# Altium integrated library Texas Instruments Interface USB.IntLib: 91 symbols (part 2 of 12)
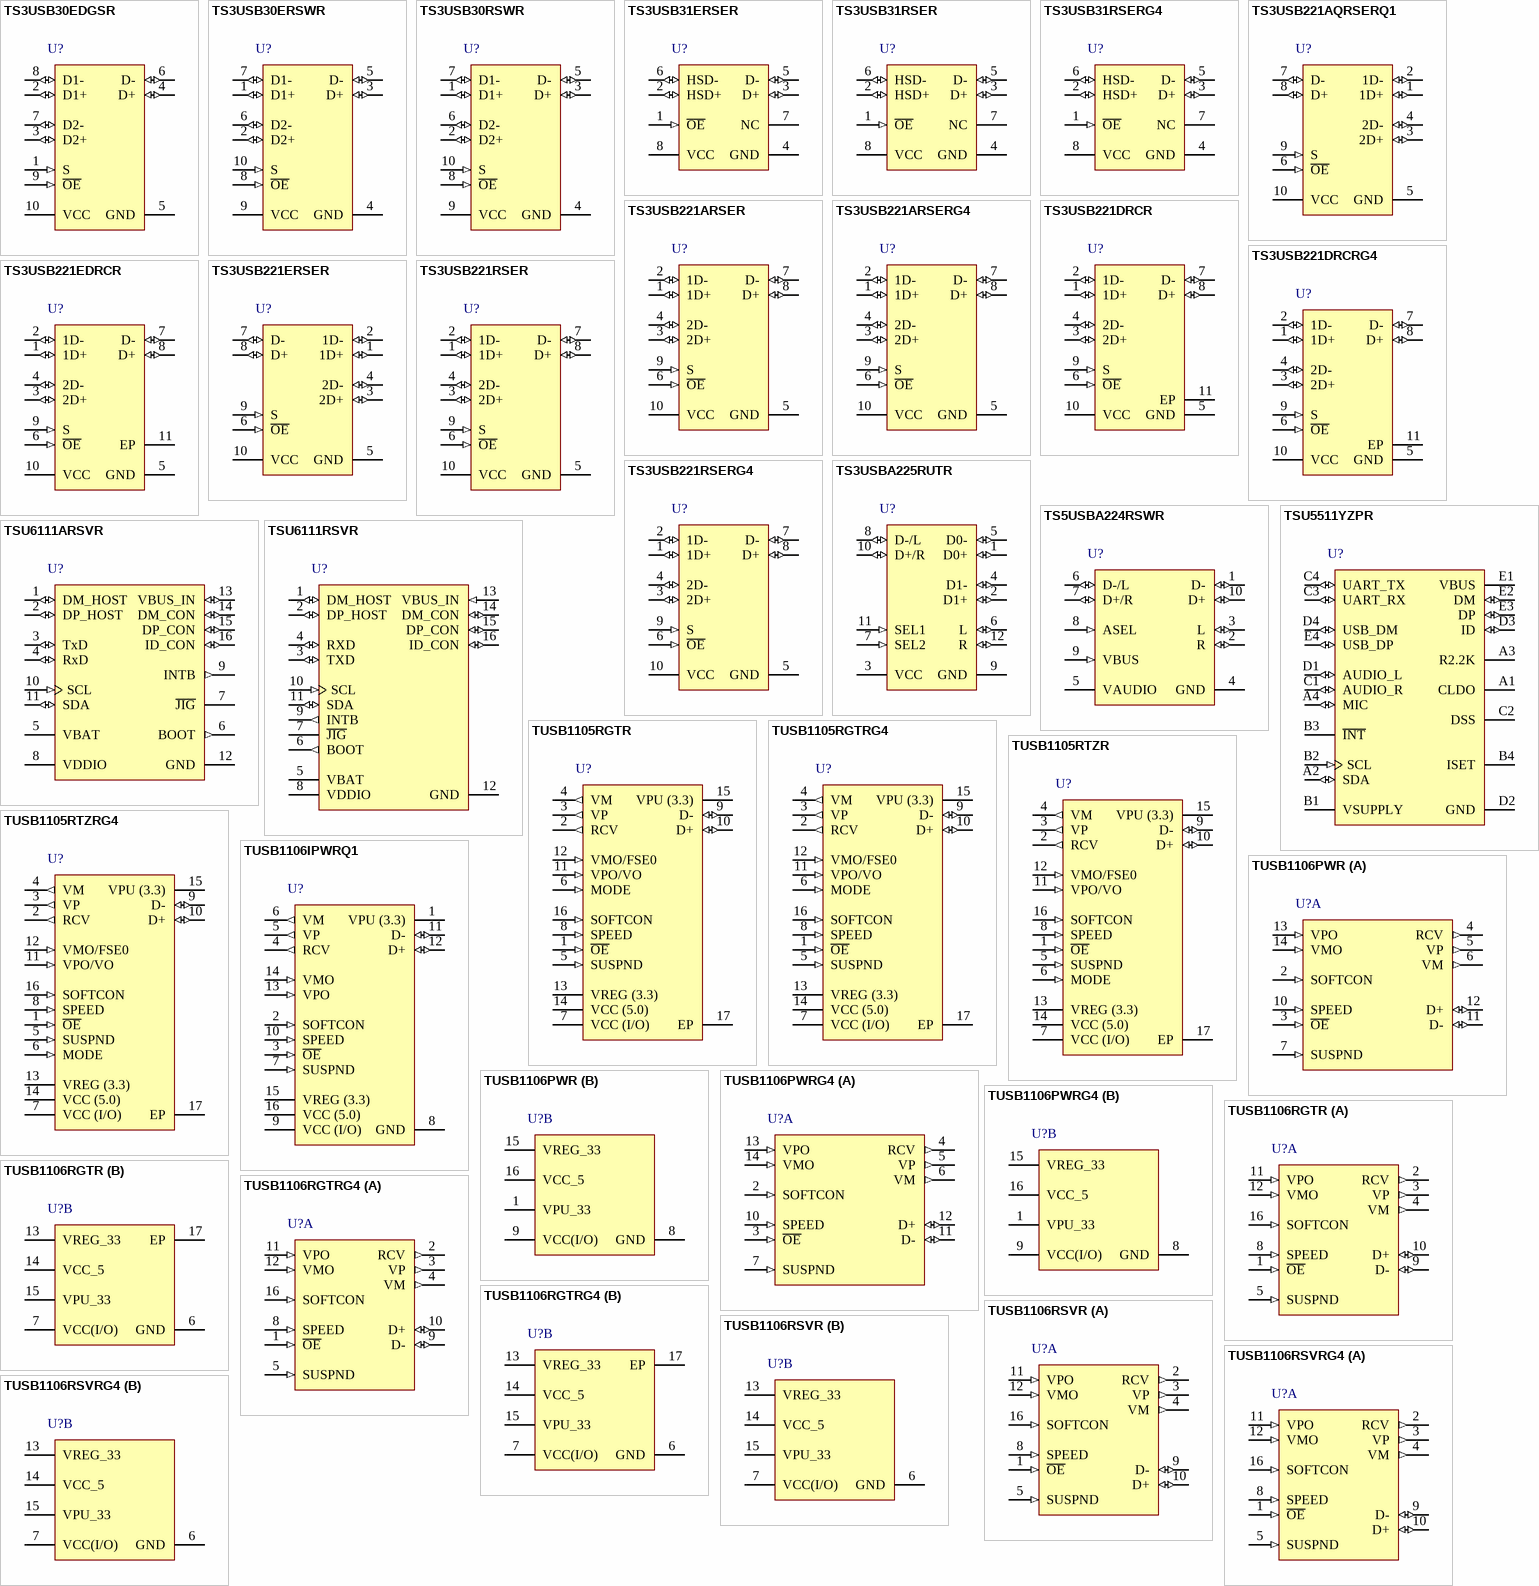
[diagram p9: symbols TS3USB30EDGSR to TUSB1106RSVRG4]

## TUSB1106IPWRQ1
designator U?
Automotive Catalog Advanced USB Transciever, Full Speed, +/-15 kV, -40 to 85 degC, 16-Pin TSSOP (PW), Green (RoHS & no Sb/Br); PartNumber: TUSB1106IPWRQ1; Manufacturer: Texas Instruments; SubFamily: USB Transceiver; DatasheetVersion: SCAS916; PackageVersion: revG, Feb-2011; PackageReference: PW16; PackageDescription: 16-Pin Plastic Thin Small Outline Package 5 x 4.4 mm Body ,0.65 mm Pitch; Mounting Technology: Surface Mount; Eco-Plan: Green (RoHS & no Sb/Br); ESD HBM(kV): +/-15; USB Speed: Full; Code_JEDEC: MO-153; ComponentLink1Description: Datasheet; ComponentLink1URL: http://www.ti.com/general/docs/lit/getliterature.tsp?genericPartNumber=TUSB1106-Q1&fileType=pdf; ComponentLink2Description: Package Specification; ComponentLink2URL: http://www.ti.com/lit/ml/mpds361/mpds361.pdf
footprint PW16_N (TSOP, 16-Leads, Body 5x4.4mm, Pitch 0.65mm, IPC Medium Density)
footprint PW16_L (TSOP, 16-Leads, Body 5x4.4mm, Pitch 0.65mm, IPC High Density)
footprint PW16_M (TSOP, 16-Leads, Body 5x4.4mm, Pitch 0.65mm, IPC Low Density)
pins: 1 VPU (3.3) (power) "Pullup supply voltage (3.3 V +/- 10%). Connect an external 1.5-k ohm resistor on D+ (full speed) or D- (low speed). Pin function is controlled by input SOFTCON. SOFTCON = LOW - Vpu(3.3) current SOFTCON = HIGH - Vpu(3.3) = 3.(See Datasheet)", 2 SOFTCON (in) "Software-controlled USB connection. A HIGH level applies 3.3 V to pin Vpu(3.3), which is connected to an external 1.5-k ohm pullup resistor.This allows USB connect/disconnect signaling to be controlled by software input pad (See Datasheet)", 3 ~{OE} (in) "Output enable(CMOS level with respect to VCC(I/O),active LOW).Enables the transceiver to transmit data on the USB bus input pad. Push pull,COMS.", 4 RCV (out) "Differential data receiver (CMOS level with respect to VCC(I/O)). Driven LOW when input SUSPND is HIGH. The output state of RCV is preserved andstable during an SE0 condition output pad. Push pull, 4-mA output drive,CMOS.", 5 VP (out) "Single-ended D+ receiver (CMOS level with respect to V). For external detection of single-ended zero (SE0), error conditions, speed of connected device. Driven HIGH when no supply voltage is connected to VCC(5.0) and Vreg(3.(See Datasheet)", 6 VM (out) "Single-ended D- receiver (CMOS level with respect to VCC(I/O)).For external detection of single-ended zero (SE0), error conditions, speed of connected device.Driven HIGH when no supply voltage is connected to VCC(5.0) and (See Datasheet)", 7 SUSPND (in) "Suspend (CMOS level with respect to VCC(I/O)). A HIGH level enables low-power state while the USB bus is inactive and drives output RCV to a LOW-level input pad. Push pull, CMOS.", 8 GND (power) "Ground reference", 9 VCC (I/O) (power) "Supply voltage for digital I/O pins (1.65 to 3.6 V). When VCC(I/O) is not connected, the D+ and D- pins are in 3-state. This supply pin is independent of VCC(5.0) and Vreg(3.3) and must never exceed the Vreg(3.3) voltage.", 10 SPEED (in) "Speed selection (CMOS level with respect to VCC(I/O)).Adjusts the slew rate of differential data outputs D+ and D- according to the transmission speed. Input pad, push pull, CMOS. LOW - low speed (1.5 Mbit/s ) HIGH - full (See Datasheet)", 11 D- (io) "Negative USB data bus connection(abalog,differential).For low-speed mode, connect to pin VPU(3.3)via a 1.5-kohm resistor.", 12 D+ (io) "Positive USB data bus connection(abalog,differential).For full-speed mode, connect to pin VPU(3.3)via a 1.5-kohm resistor.", 13 VPO (in) "Driver data (CMOS level with respect to VCC(I/O), Schmitt trigger). See Driving Function table .Push pull, CMOS.", 14 VMO (in) "Driver data (CMOS level with respect to VCC(I/O), Schmitt trigger). See Driving Function table. Push pull, CMOS.", 15 VREG (3.3) (power) "Internal regulator option. Regulated supply-voltage output (3 V to 3.6 V) during 5-V operation. A decoupling capacitor of at least 0.1 mF is required for the regulator bypass option. Used as a supply-voltage input for 3.3 V (See Datasheet)", 16 VCC (5.0) (power) "Internal regulator option.Supply-voltage input(4V to 5.5V).Can be commected directly to USB supply VBUS regulator bypass option. Connect to VREG(3.3)."

## TUSB1106PWR
designator U?
Advanced USB Transciever, Full Speed, Differential, +/-15 KV, -40 to 85 degC, 16-Pin TSSOP (PW), Green (RoHS & no Sb/Br); PartNumber: TUSB1106PWR; Manufacturer: Texas Instruments; SubFamily: USB Transceiver; DatasheetVersion: SCAS818E; PackageVersion: revG, Feb-2011; PackageReference: PW16; PackageDescription: 16-Pin Plastic Thin Small Outline Package 5 x 4.4 mm Body ,0.65 mm Pitch; Mounting Technology: Surface Mount; Eco-Plan: Green (RoHS & no Sb/Br); ESD HBM(kV): +/-15; USB Speed: Full; Code_JEDEC: MO-153; ComponentLink1Description: Datasheet; ComponentLink1URL: http://www.ti.com/general/docs/lit/getliterature.tsp?genericPartNumber=TUSB1106&fileType=pdf; ComponentLink2Description: Package Specification; ComponentLink2URL: http://www.ti.com/lit/ml/mpds361/mpds361.pdf
footprint PW16_N (TSOP, 16-Leads, Body 5x4.4mm, Pitch 0.65mm, IPC Medium Density)
footprint PW16_L (TSOP, 16-Leads, Body 5x4.4mm, Pitch 0.65mm, IPC High Density)
footprint PW16_M (TSOP, 16-Leads, Body 5x4.4mm, Pitch 0.65mm, IPC Low Density)
part A pins: 2 SOFTCON (in) "Software-controlled USB connection. A HIGH level applies 3.3 V to pin Vpu(3.3), which is connected to an external 1.5-k ohm pullup resistor. [see datasheet]", 3 ~{OE} (in) "Output enable (CMOS level with respect to VCC(I/O), active LOW). Enables the transceiver to transmit data on the USB bus input pad. Push pull,CMOS.", 4 RCV (out) "Differential data receiver (CMOS level with respect to VCC(I/O)). Driven LOW when input SUSPND is HIGH. [see datasheet]", 5 VP (out) "Single-ended D+ receiver (CMOS level with respect to V). For external detection of single-ended zero (SE0), error conditions, speed of connected device. [see datasheet]", 6 VM (out) "Single-ended D- receiver (CMOS level with respect to VCC(I/O)). For external detection of single-ended zero (SE0), error conditions, speed of connected device. [see datasheet]", 7 SUSPND (in) "Suspend (CMOS level with respect to VCC(I/O)). A HIGH level enables low-power state while the USB bus is inactive and drives output RCV to a LOW-level input pad. Push pull, CMOS.", 10 SPEED (in) "Speed selection (CMOS level with respect to VCC(I/O)). Adjusts the slew rate of differential data outputs D+ and D- according to the transmission speed. Input pad, push pull, CMOS. [see datasheet]", 11 D- (io) "Negative USB data bus connection (analog, differential). For low-speed mode, connect to pin Vpu(3.3) via a 1.5-kohm resistor.", 12 D+ (io) "Negative USB data bus connection (analog, differential). For low-speed mode, connect to pin Vpu(3.3) via a 1.5-kohm resistor.", 13 VPO (in) "Driver data (CMOS level with respect to VCC(I/O), Schmitt trigger). [see datasheet]", 14 VMO (in) "Driver data (CMOS level with respect to VCC(I/O), Schmitt trigger). [see datasheet]"
part B pins: 1 VPU_33 (power) "Pullup supply voltage (3.3 V +/- 10%). Connect an external 1.5-kohm resistor on D+ (full speed) or D- (low speed). Pin function is controlled by input SOFTCON.SOFTCON = LOW – Vpu(3. [see datasheet]", 8 GND (power) "Ground supply(2)", 9 VCC(I/O) (power) "Supply voltage for digital I/O pins (1.65 to 3.6 V). When VCC(I/O) is not connected, the D+ and D- pins are in 3-state. This supply pin is independent of VCC(5.0) and Vreg(3. [see datasheet]", 15 VREG_33 (power) "Internal regulator option. Regulated supply-voltage output (3 V to 3.6 V) during 5-V operation. A decoupling capacitor of at least 0.1 mF is required for the regulator bypass option. [see datasheet]", 16 VCC_5 (power) "Internal regulator option. Supply-voltage input (4 V to 5.5 V). Can be connected directly to USB supply VBUS regulator bypass option. Connect to Vreg(3.3)."

## TUSB1106PWRG4
designator U?
Advanced USB Transciever, Full Speed, Differential, +/-15 kV, -40 to 85 degC, 16-Pin TSSOP (PW), Green (RoHS & no Sb/Br); PartNumber: TUSB1106PWRG4; Manufacturer: Texas Instruments; SubFamily: USB Transceiver; DatasheetVersion: SCAS818E; PackageVersion: revG, Feb-2011; PackageReference: PW16; PackageDescription: 16-Pin Plastic Thin Small Outline Package 5 x 4.4 mm Body ,0.65 mm Pitch; Mounting Technology: Surface Mount; Eco-Plan: Green (RoHS & no Sb/Br); ESD HBM(kV): +/-15; USB Speed: Full; Code_JEDEC: MO-153; ComponentLink1Description: Datasheet; ComponentLink1URL: http://www.ti.com/general/docs/lit/getliterature.tsp?genericPartNumber=TUSB1106&fileType=pdf; ComponentLink2Description: Package Specification; ComponentLink2URL: http://www.ti.com/lit/ml/mpds361/mpds361.pdf
footprint PW16_N (TSOP, 16-Leads, Body 5x4.4mm, Pitch 0.65mm, IPC Medium Density)
footprint PW16_L (TSOP, 16-Leads, Body 5x4.4mm, Pitch 0.65mm, IPC High Density)
footprint PW16_M (TSOP, 16-Leads, Body 5x4.4mm, Pitch 0.65mm, IPC Low Density)
part A pins: 2 SOFTCON (in) "Software-controlled USB connection. A HIGH level applies 3.3 V to pin Vpu(3.3), which is connected to an external 1.5-k ohm pullup resistor. [see datasheet]", 3 ~{OE} (in) "Output enable (CMOS level with respect to VCC(I/O), active LOW). Enables the transceiver to transmit data on the USB bus input pad. Push pull,CMOS.", 4 RCV (out) "Differential data receiver (CMOS level with respect to VCC(I/O)). Driven LOW when input SUSPND is HIGH. [see datasheet]", 5 VP (out) "Single-ended D+ receiver (CMOS level with respect to V). For external detection of single-ended zero (SE0), error conditions, speed of connected device. [see datasheet]", 6 VM (out) "Single-ended D- receiver (CMOS level with respect to VCC(I/O)). For external detection of single-ended zero (SE0), error conditions, speed of connected device. [see datasheet]", 7 SUSPND (in) "Suspend (CMOS level with respect to VCC(I/O)). A HIGH level enables low-power state while the USB bus is inactive and drives output RCV to a LOW-level input pad. Push pull, CMOS.", 10 SPEED (in) "Speed selection (CMOS level with respect to VCC(I/O)). Adjusts the slew rate of differential data outputs D+ and D- according to the transmission speed. Input pad, push pull, CMOS. [see datasheet]", 11 D- (io) "Negative USB data bus connection (analog, differential). For low-speed mode, connect to pin Vpu(3.3) via a 1.5-kohm resistor.", 12 D+ (io) "Negative USB data bus connection (analog, differential). For low-speed mode, connect to pin Vpu(3.3) via a 1.5-kohm resistor.", 13 VPO (in) "Driver data (CMOS level with respect to VCC(I/O), Schmitt trigger). [see datasheet]", 14 VMO (in) "Driver data (CMOS level with respect to VCC(I/O), Schmitt trigger). [see datasheet]"
part B pins: 1 VPU_33 (power) "Pullup supply voltage (3.3 V +/- 10%). Connect an external 1.5-kohm resistor on D+ (full speed) or D- (low speed). Pin function is controlled by input SOFTCON.SOFTCON = LOW – Vpu(3. [see datasheet]", 8 GND (power) "Ground supply(2)", 9 VCC(I/O) (power) "Supply voltage for digital I/O pins (1.65 to 3.6 V). When VCC(I/O) is not connected, the D+ and D- pins are in 3-state. This supply pin is independent of VCC(5.0) and Vreg(3. [see datasheet]", 15 VREG_33 (power) "Internal regulator option. Regulated supply-voltage output (3 V to 3.6 V) during 5-V operation. A decoupling capacitor of at least 0.1 mF is required for the regulator bypass option. [see datasheet]", 16 VCC_5 (power) "Internal regulator option. Supply-voltage input (4 V to 5.5 V). Can be connected directly to USB supply VBUS regulator bypass option. Connect to Vreg(3.3)."

## TUSB1106RGTR
designator U?
Advanced USB Transciever, Full Speed, Differential, +/-15 kV, -40 to 85 degC, 16-Pin QFN (RGT), Green (RoHS & no Sb/Br); PartNumber: TUSB1106RGTR; Manufacturer: Texas Instruments; SubFamily: USB Transceiver; DatasheetVersion: SCAS818E; PackageVersion: revH, Oct-2011; PackageReference: RGT16-1600X1600TP; PackageDescription: 16-Pin Plastic Quad Flatpack No-Lead, 3 x 3 mm Body, 0.5 mm Pitch; Mounting Technology: Surface Mount; Eco-Plan: Green (RoHS & no Sb/Br); ESD HBM(kV): +/-15; USB Speed: Full; Code_JEDEC: MO-220; ComponentLink1Description: Datasheet; ComponentLink1URL: http://www.ti.com/general/docs/lit/getliterature.tsp?genericPartNumber=TUSB1106&fileType=pdf; ComponentLink2Description: Package Specification; ComponentLink2URL: http://www.ti.com/litv/pdf/mpqf119g
footprint RGT16-1600X1600TP (QFN, 16-Leads, Body 3x3mm, Pitch 0.5mm, Thermal Pad 1.6x1.6mm, TI Recommended)
part A pins: 1 ~{OE} (in) "Output enable (CMOS level with respect to VCC(I/O), active LOW). Enables the transceiver to transmit data on the USB bus input pad. Push pull,CMOS.", 2 RCV (out) "Differential data receiver (CMOS level with respect to VCC(I/O)). Driven LOW when input SUSPND is HIGH. The output state of RCV is preserved and stable during an SE0 condition output pad. Push pull, 4-mA output drive, CMOS.", 3 VP (out) "Single-ended D+ receiver (CMOS level with respect to V). For external detection of single-ended zero (SE0), error conditions, speed of connected device. Driven HIGH when no supply voltage is connected to VCC(5.0) andVreg(3.3) output pad. Push pull, 4-mA", 4 VM (out) "Single-ended D– receiver (CMOS level with respect to VCC(I/O)). For external detection of single-ended zero (SE0), error conditions, speed of connected device. Driven HIGH when no supply voltage is connected to VCC(5.0) and Vreg(3.3) output pad. Push pul", 5 SUSPND (in) "Suspend (CMOS level with respect to VCC(I/O)). A HIGH level enables low-power state while the USB bus is inactive and drives output RCV to a LOW-level input pad. Push pull, CMOS.", 8 SPEED (in) "Speed selection (CMOS level with respect to VCC(I/O)). Adjusts the slew rate of differential data outputs D+ and D– according to the transmission speed. Input pad, push pull, CMOS. LOW – low speed (1.5 Mbit/s) HIGH – full speed (12 Mbit/s)", 9 D- (io) "Negative USB data bus connection (analog,differential).For low-speed mode, connect to pin Vpu(3.3) via a 1.5-k? resistor", 10 D+ (io) "Positive USB data bus connection (analog,differential). For full-speed mode, connect to pin Vpu(3.3) via a 1.5-k? resistor", 11 VPO (in) "Driver data (CMOS level with respect to VCC(I/O), Schmitt trigger). See Driving Function Table (pin O\E\ = L) using single-ended input data interface for TUSB1105 (pin MODE = L), and Driving Function Table (pin O\E\ = L) using differential input data int", 12 VMO (in) "Driver data (CMOS level with respect to VCC(I/O), Schmitt trigger). See Driving Function Table (pin O\E\ = L) using single-ended input data interface for TUSB1105 (pin MODE = L), and Driving Function Table (pin O\E\ = L) using differential input data int", 16 SOFTCON (in) "Software-controlled USB connection. A HIGH level applies 3.3 V to pin Vpu(3.3), which is connected to an external 1.5-k? pullup resistor. This allows USB connect/disconnect signaling to be controlled by software input pad. Push pull, CMOS."
part B pins: 6 GND (power) "Ground supply(2)", 7 VCC(I/O) (power) "Supply voltage for digital I/O pins (1.65 to 3.6 V). When VCC(I/O) is not connected, the D+ and D– pins are in 3-state. This supply pin is independent of VCC(5.0) and Vreg(3.3) and must never exceed the Vreg(3.3) voltage.", 13 VREG_33 (power) "Internal regulator option. Regulated supply-voltage output (3 V to 3.6 V) during 5-V operation. A decoupling capacitor of at least 0.1 mF is required for the regulator bypass option. Used as a supply-voltage input for 3.3 V ± 10% operation", 14 VCC_5 (power) "Internal regulator option. Supply-voltage input (4 V to 5.5 V). Can be connected directly to USB supply VBUS regulator bypass option. Connect to Vreg(3.3).", 15 VPU_33 (power) "Pullup supply voltage (3.3 V ± 10%). Connect an external 1.5-k? resistor on D+ (full speed) or D– (low speed). Pin function is controlled by input SOFTCON.SOFTCON = LOW – Vpu(3.3) floating (high impedance), ensures zero pullup current SOFTCON = HIGH – Vp", 17 EP "Exposed Thermal Pad"

## TUSB1106RGTRG4
designator U?
Advanced USB Transciever, Full Speed, Differential, +/-15 kV, -40 to 85 degC, 16-Pin QFN (RGT), Green (RoHS & no Sb/Br); PartNumber: TUSB1106RGTRG4; Manufacturer: Texas Instruments; SubFamily: USB Transceiver; DatasheetVersion: SCAS818E; PackageVersion: revH, Oct-2011; PackageReference: RGT16-1600X1600TP; PackageDescription: 16-Pin Plastic Quad Flatpack No-Lead, 3 x 3 mm Body, 0.5 mm Pitch; Mounting Technology: Surface Mount; Eco-Plan: Green (RoHS & no Sb/Br); ESD HBM(kV): +/-15; USB Speed: Full; Code_JEDEC: MO-220; ComponentLink1Description: Datasheet; ComponentLink1URL: http://www.ti.com/general/docs/lit/getliterature.tsp?genericPartNumber=TUSB1106&fileType=pdf; ComponentLink2Description: Package Specification; ComponentLink2URL: http://www.ti.com/litv/pdf/mpqf119g
footprint RGT16-1600X1600TP (QFN, 16-Leads, Body 3x3mm, Pitch 0.5mm, Thermal Pad 1.6x1.6mm, TI Recommended)
part A pins: 1 ~{OE} (in) "Output enable (CMOS level with respect to VCC(I/O), active LOW). Enables the transceiver to transmit data on the USB bus input pad. Push pull,CMOS.", 2 RCV (out) "Differential data receiver (CMOS level with respect to VCC(I/O)). Driven LOW when input SUSPND is HIGH. The output state of RCV is preserved and stable during an SE0 condition output pad. Push pull, 4-mA output drive, CMOS.", 3 VP (out) "Single-ended D+ receiver (CMOS level with respect to V). For external detection of single-ended zero (SE0), error conditions, speed of connected device. Driven HIGH when no supply voltage is connected to VCC(5.0) andVreg(3.3) output pad. Push pull, 4-mA", 4 VM (out) "Single-ended D– receiver (CMOS level with respect to VCC(I/O)). For external detection of single-ended zero (SE0), error conditions, speed of connected device. Driven HIGH when no supply voltage is connected to VCC(5.0) and Vreg(3.3) output pad. Push pul", 5 SUSPND (in) "Suspend (CMOS level with respect to VCC(I/O)). A HIGH level enables low-power state while the USB bus is inactive and drives output RCV to a LOW-level input pad. Push pull, CMOS.", 8 SPEED (in) "Speed selection (CMOS level with respect to VCC(I/O)). Adjusts the slew rate of differential data outputs D+ and D– according to the transmission speed. Input pad, push pull, CMOS. LOW – low speed (1.5 Mbit/s) HIGH – full speed (12 Mbit/s)", 9 D- (io) "Negative USB data bus connection (analog,differential).For low-speed mode, connect to pin Vpu(3.3) via a 1.5-k? resistor", 10 D+ (io) "Positive USB data bus connection (analog,differential). For full-speed mode, connect to pin Vpu(3.3) via a 1.5-k? resistor", 11 VPO (in) "Driver data (CMOS level with respect to VCC(I/O), Schmitt trigger). See Driving Function Table (pin O\E\ = L) using single-ended input data interface for TUSB1105 (pin MODE = L), and Driving Function Table (pin O\E\ = L) using differential input data int", 12 VMO (in) "Driver data (CMOS level with respect to VCC(I/O), Schmitt trigger). See Driving Function Table (pin O\E\ = L) using single-ended input data interface for TUSB1105 (pin MODE = L), and Driving Function Table (pin O\E\ = L) using differential input data int", 16 SOFTCON (in) "Software-controlled USB connection. A HIGH level applies 3.3 V to pin Vpu(3.3), which is connected to an external 1.5-k? pullup resistor. This allows USB connect/disconnect signaling to be controlled by software input pad. Push pull, CMOS."
part B pins: 6 GND (power) "Ground supply(2)", 7 VCC(I/O) (power) "Supply voltage for digital I/O pins (1.65 to 3.6 V). When VCC(I/O) is not connected, the D+ and D– pins are in 3-state. This supply pin is independent of VCC(5.0) and Vreg(3.3) and must never exceed the Vreg(3.3) voltage.", 13 VREG_33 (power) "Internal regulator option. Regulated supply-voltage output (3 V to 3.6 V) during 5-V operation. A decoupling capacitor of at least 0.1 mF is required for the regulator bypass option. Used as a supply-voltage input for 3.3 V ± 10% operation", 14 VCC_5 (power) "Internal regulator option. Supply-voltage input (4 V to 5.5 V). Can be connected directly to USB supply VBUS regulator bypass option. Connect to Vreg(3.3).", 15 VPU_33 (power) "Pullup supply voltage (3.3 V ± 10%). Connect an external 1.5-k? resistor on D+ (full speed) or D– (low speed). Pin function is controlled by input SOFTCON.SOFTCON = LOW – Vpu(3.3) floating (high impedance), ensures zero pullup current SOFTCON = HIGH – Vp", 17 EP "Exposed Thermal Pad"

## TUSB1106RSVR
designator U?
Advanced USB Transciever, Full Speed, Differential, +/-15 KV, -40 to 85 degC, 16-Pin UQFN (RSV), Green (RoHS & no Sb/Br); PartNumber: TUSB1106RSVR; Manufacturer: Texas Instruments; SubFamily: USB Transceiver; DatasheetVersion: SCAS818E; PackageVersion: revD, Dec-2011; PackageReference: RSV16; PackageDescription: 16-Leads Plastic Quad Flatpack No-Lead, 2.6 x 1.8 x 0.5 mm Body, 0.4 mm Pitch; Mounting Technology: Surface Mount; Eco-Plan: Green (RoHS & no Sb/Br); ESD HBM(kV): +/-15; USB Speed: Full; Code_JEDEC: MO-288*; ComponentLink1Description: Datasheet; ComponentLink1URL: http://www.ti.com/general/docs/lit/getliterature.tsp?genericPartNumber=TUSB1106&fileType=pdf; ComponentLink2Description: Package Specification; ComponentLink2URL: http://www.ti.com/lit/ml/mpqf205c/mpqf205c.pdf
footprint RSV16 (QFN, 16-Leads, Body 1.8x2.6mm, Pitch 0.4mm, TI Recommended)
part A pins: 1 ~{OE} (in) "Output enable (CMOS level with respect to VCC(I/O), active LOW). Enables the transceiver to transmit data on the USB bus input pad. Push pull,CMOS.", 2 RCV (out) "Differential data receiver (CMOS level with respect to VCC(I/O)). Driven LOW when input SUSPND is HIGH. [see datasheet]", 3 VP (out) "Single-ended D+ receiver (CMOS level with respect to V). For external detection of single-ended zero (SE0), error conditions, speed of connected device. [see datasheet]", 4 VM (out) "Single-ended D- receiver (CMOS level with respect to VCC(I/O)). For external detection of single-ended zero (SE0), error conditions, speed of connected device. [see datasheet]", 5 SUSPND (in) "Suspend (CMOS level with respect to VCC(I/O)). A HIGH level enables low-power state while the USB bus is inactive and drives output RCV to a LOW-level input pad. Push pull, CMOS.", 8 SPEED (in) "Speed selection (CMOS level with respect to VCC(I/O)). Adjusts the slew rate of differential data outputs D+ and D- according to the transmission speed. Input pad, push pull, CMOS. [see datasheet]", 9 D- (io) "Negative USB data bus connection (analog,differential).For low-speed mode, connect to pin Vpu(3.3) via a 1.5-k ohm resistor", 10 D+ (io) "Positive USB data bus connection (analog,differential). For full-speed mode, connect to pin Vpu(3.3) via a 1.5-k ohm resistor", 11 VPO (in) "Driver data (CMOS level with respect to VCC(I/O), Schmitt trigger). [see datasheet]", 12 VMO (in) "Driver data (CMOS level with respect to VCC(I/O), Schmitt trigger). [see datasheet]", 16 SOFTCON (in) "Software-controlled USB connection. A HIGH level applies 3.3 V to pin Vpu(3.3), which is connected to an external 1.5-k ohm pullup resistor. [see datasheet]"
part B pins: 6 GND (power) "Ground supply(2)", 7 VCC(I/O) (power) "Supply voltage for digital I/O pins (1.65 to 3.6 V). When VCC(I/O) is not connected, the D+ and D- pins are in 3-state. This supply pin is independent of VCC(5.0) and Vreg(3. [see datasheet]", 13 VREG_33 (power) "Internal regulator option.Regulated supply-voltage output (3 V to 3.6 V) during 5-V operation. A decoupling capacitor of at least 0.1 mF is required for the regulator bypass option. [see datasheet]", 14 VCC_5 (power) "Internal regulator option. Supply-voltage input (4 V to 5.5 V). Can be connected directly to USB supply VBUS regulator bypass option. Connect to Vreg(3.3).", 15 VPU_33 (power) "Pullup supply voltage (3.3 V +/- 10%). Connect an external 1.5-k ohm resistor on D+ (full speed) or D- (low speed). Pin function is controlled by input SOFTCON.SOFTCON = LOW – Vpu(3. [see datasheet]"

## TUSB1106RSVRG4
designator U?
Advanced USB Transciever, Full Speed, Differential, +/-15 KV, -40 to 85 degC, 16-Pin UQFN (RSV), Green (RoHS & no Sb/Br); PartNumber: TUSB1106RSVRG4; Manufacturer: Texas Instruments; SubFamily: USB Transceiver; DatasheetVersion: SCAS818E; PackageVersion: revD, Dec-2011; PackageReference: RSV16; PackageDescription: 16-Leads Plastic Quad Flatpack No-Lead, 2.6 x 1.8 x 0.5 mm Body, 0.4 mm Pitch; Mounting Technology: Surface Mount; Eco-Plan: Green (RoHS & no Sb/Br); ESD HBM(kV): +/-15; USB Speed: Full; Code_JEDEC: MO-288*; ComponentLink1Description: Datasheet; ComponentLink1URL: http://www.ti.com/general/docs/lit/getliterature.tsp?genericPartNumber=TUSB1106&fileType=pdf; ComponentLink2Description: Package Specification; ComponentLink2URL: http://www.ti.com/lit/ml/mpqf205c/mpqf205c.pdf
footprint RSV16 (QFN, 16-Leads, Body 1.8x2.6mm, Pitch 0.4mm, TI Recommended)
part A pins: 1 ~{OE} (in) "Output enable (CMOS level with respect to VCC(I/O), active LOW). Enables the transceiver to transmit data on the USB bus input pad. Push pull,CMOS.", 2 RCV (out) "Differential data receiver (CMOS level with respect to VCC(I/O)). Driven LOW when input SUSPND is HIGH. [see datasheet]", 3 VP (out) "Single-ended D+ receiver (CMOS level with respect to V). For external detection of single-ended zero (SE0), error conditions, speed of connected device. [see datasheet]", 4 VM (out) "Single-ended D- receiver (CMOS level with respect to VCC(I/O)). For external detection of single-ended zero (SE0), error conditions, speed of connected device. [see datasheet]", 5 SUSPND (in) "Suspend (CMOS level with respect to VCC(I/O)). A HIGH level enables low-power state while the USB bus is inactive and drives output RCV to a LOW-level input pad. Push pull, CMOS.", 8 SPEED (in) "Speed selection (CMOS level with respect to VCC(I/O)). Adjusts the slew rate of differential data outputs D+ and D- according to the transmission speed. Input pad, push pull, CMOS. [see datasheet]", 9 D- (io) "Negative USB data bus connection (analog,differential).For low-speed mode, connect to pin Vpu(3.3) via a 1.5-k ohm resistor", 10 D+ (io) "Positive USB data bus connection (analog,differential). For full-speed mode, connect to pin Vpu(3.3) via a 1.5-k ohm resistor", 11 VPO (in) "Driver data (CMOS level with respect to VCC(I/O), Schmitt trigger). [see datasheet]", 12 VMO (in) "Driver data (CMOS level with respect to VCC(I/O), Schmitt trigger). [see datasheet]", 16 SOFTCON (in) "Software-controlled USB connection. A HIGH level applies 3.3 V to pin Vpu(3.3), which is connected to an external 1.5-k ohm pullup resistor. [see datasheet]"
part B pins: 6 GND (power) "Ground supply(2)", 7 VCC(I/O) (power) "Supply voltage for digital I/O pins (1.65 to 3.6 V). When VCC(I/O) is not connected, the D+ and D- pins are in 3-state. This supply pin is independent of VCC(5.0) and Vreg(3. [see datasheet]", 13 VREG_33 (power) "Internal regulator option.Regulated supply-voltage output (3 V to 3.6 V) during 5-V operation. A decoupling capacitor of at least 0.1 mF is required for the regulator bypass option. [see datasheet]", 14 VCC_5 (power) "Internal regulator option. Supply-voltage input (4 V to 5.5 V). Can be connected directly to USB supply VBUS regulator bypass option. Connect to Vreg(3.3).", 15 VPU_33 (power) "Pullup supply voltage (3.3 V +/- 10%). Connect an external 1.5-k ohm resistor on D+ (full speed) or D- (low speed). Pin function is controlled by input SOFTCON.SOFTCON = LOW – Vpu(3. [see datasheet]"

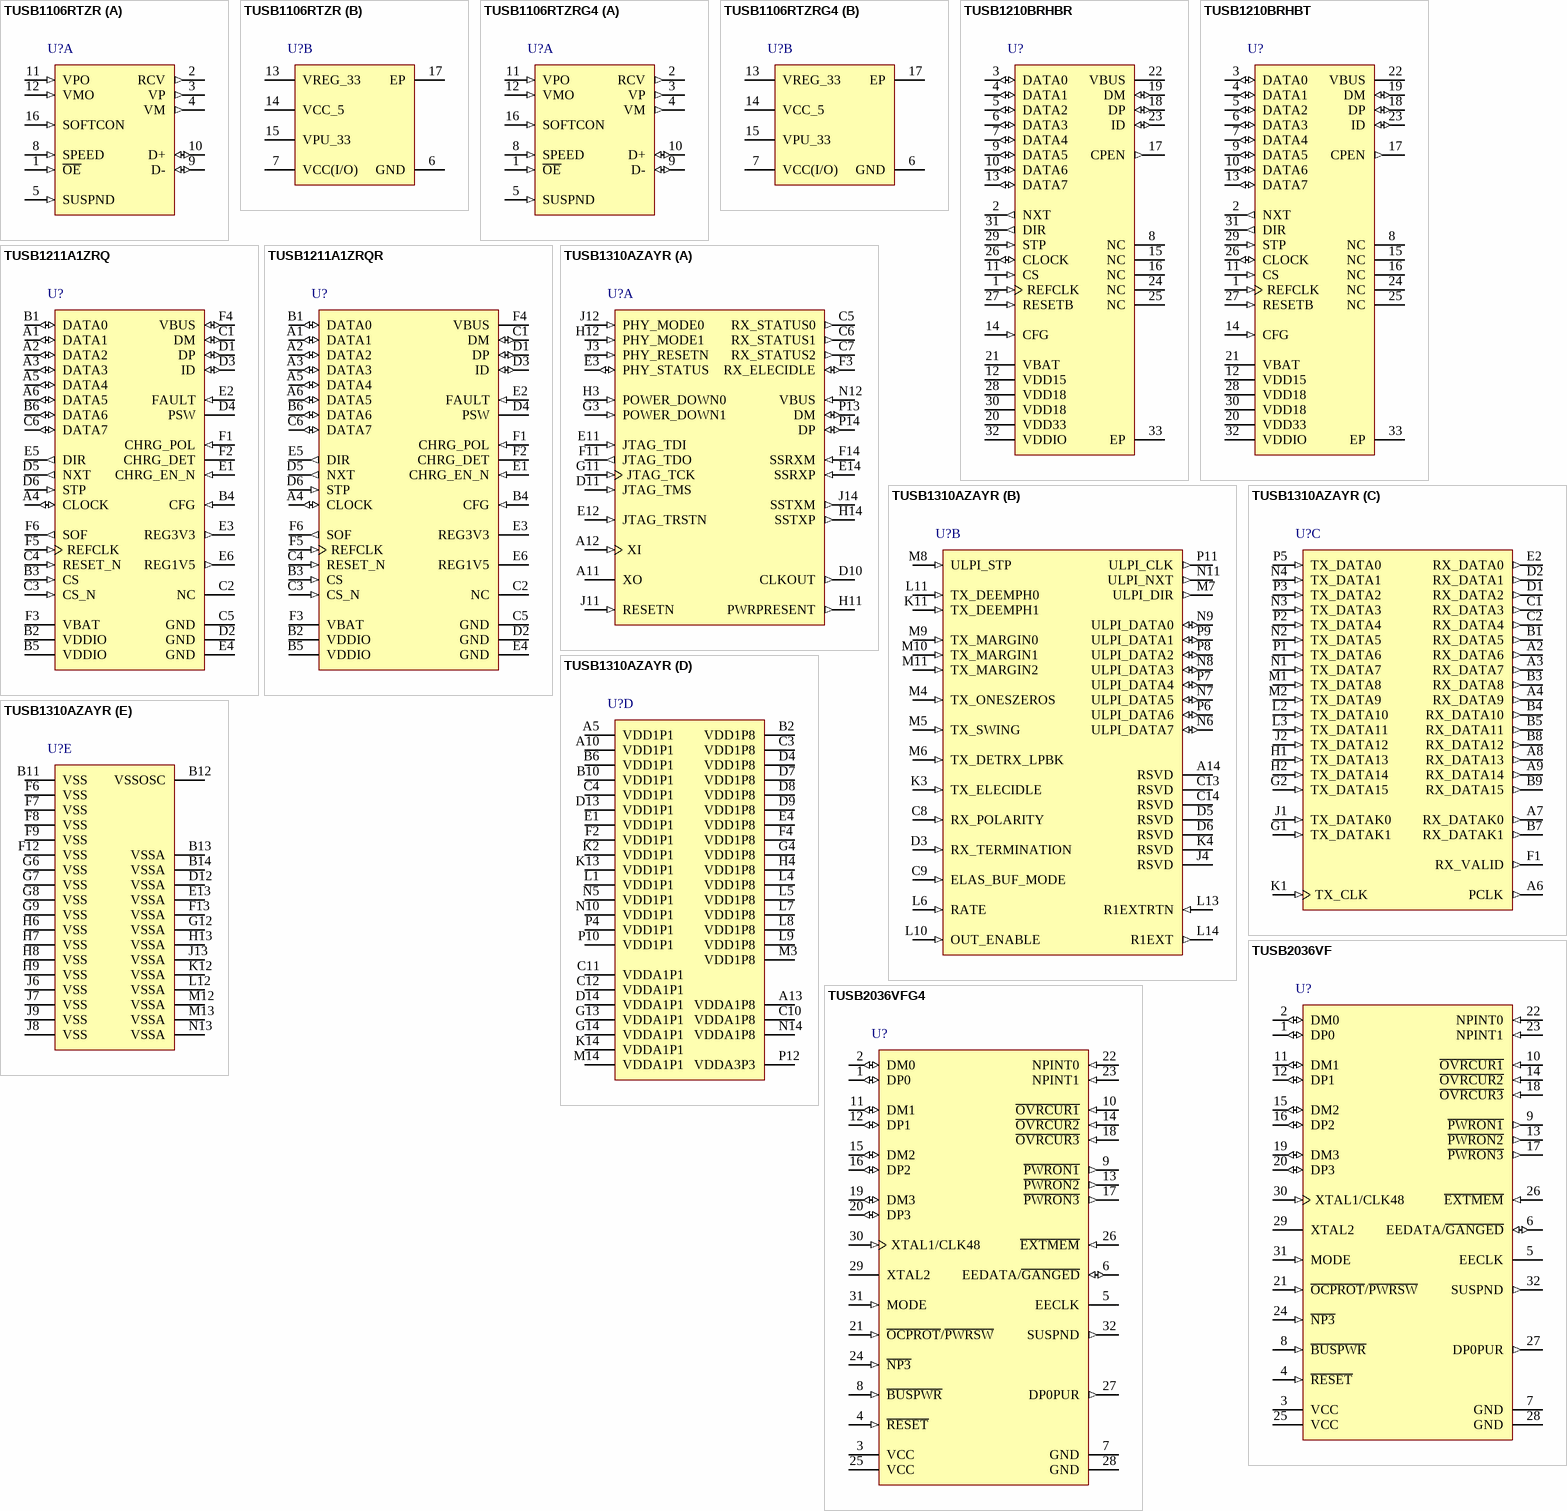
[diagram p1: symbols TUSB1106RTZR to TUSB2036VFG4]

## TUSB1106RTZR
designator U?
Advanced USB Transciever, Full Speed, Differential, +/-15 KV, -40 to 85 degC, 16-Pin WQFN (RTZ), Green (RoHS & no Sb/Br); PartNumber: TUSB1106RTZR; Manufacturer: Texas Instruments; SubFamily: USB Transceiver; DatasheetVersion: SCAS818E; PackageVersion: revD, Apr-2011; PackageReference: RTZ16-1400X1400TP; PackageDescription: 16-Pin Plastic Quad Flatpack No-Lead, 3 x 3 mm Body, 0.5 mm Pitch; Mounting Technology: Surface Mount; Eco-Plan: Green (RoHS & no Sb/Br); ESD HBM(kV): +/-15; USB Speed: Full; ComponentLink1Description: Datasheet; ComponentLink1URL: http://www.ti.com/general/docs/lit/getliterature.tsp?genericPartNumber=TUSB1106&fileType=pdf; ComponentLink2Description: Package Specification; ComponentLink2URL: http://www.ti.com/lit/ml/mpqf177c/mpqf177c.pdf
footprint RTZ16-1400X1400TP (PQFN, 16-Leads, Body 3x3mm, Pitch 0.5mm, Thermal Pad 1.4x1.4mm, TI Recommended)
part A pins: 1 ~{OE} (in) "Output enable (CMOS level with respect to VCC(I/O), active LOW). Enables the transceiver to transmit data on the USB bus input pad. Push pull,CMOS.", 2 RCV (out) "Differential data receiver (CMOS level with respect to VCC(I/O)). Driven LOW when input SUSPND is HIGH. [see datasheet]", 3 VP (out) "Single-ended D+ receiver (CMOS level with respect to V). For external detection of single-ended zero (SE0), error conditions, speed of connected device. [see datasheet]", 4 VM (out) ""Single-ended D- receiver (CMOS level with respect to VCC(I/O)).For", 5 SUSPND (in) "Suspend (CMOS level with respect to VCC(I/O)). A HIGH level enables low-power state while the USB bus is inactive and drives output RCV to a LOW-level input pad. Push pull, CMOS.", 8 SPEED (in) "Speed selection (CMOS level with respect to VCC(I/O)). Adjusts the slew rate of differential data outputs D+ and D- according to the transmission speed. Input pad, push pull, CMOS. [see datasheet]", 9 D- (io) "Negative USB data bus connection (analog,differential).For low-speed mode, connect to pin Vpu(3.3) via a 1.5-k ohm resistor", 10 D+ (io) "Positive USB data bus connection (analog,differential). For full-speed mode, connect to pin Vpu(3.3) via a 1.5-k ohm resistor", 11 VPO (in) "Driver data (CMOS level with respect to VCC(I/O), Schmitt trigger). [see datasheet]", 12 VMO (in) "Driver data (CMOS level with respect to VCC(I/O), Schmitt trigger). [see datasheet]", 16 SOFTCON (in) "Software-controlled USB connection. A HIGH level applies 3.3 V to pin Vpu(3.3), which is connected to an external 1.5-k ohm pullup resistor. [see datasheet]"
part B pins: 6 GND (power) "Ground supply(2)", 7 VCC(I/O) (power) "Supply voltage for digital I/O pins (1.65 to 3.6 V). When VCC(I/O) is not connected, the D+ and D- pins are in 3-state. This supply pin is independent of VCC(5.0) and Vreg(3. [see datasheet]", 13 VREG_33 (power) "Internal regulator option. Supply-voltage input (4 V to 5.5 V). Can be connected directly to USB supply VBUS regulator bypass option. Connect to Vreg(3.3).", 14 VCC_5 (power) "Internal regulator option. Supply-voltage input (4 V to 5.5 V). Can be connected directly to USB supply VBUS regulator bypass option. Connect to Vreg(3.3).", 15 VPU_33 (power) "Pullup supply voltage (3.3 V +/- 10%). Connect an external 1.5-k ohm resistor on D+ (full speed) or D- (low speed). Pin function is controlled by input SOFTCON.SOFTCON = LOW – Vpu(3. [see datasheet]", 17 EP "Exposed Thermal Pad"

## TUSB1106RTZRG4
designator U?
Advanced USB Transciever, Full Speed, Differential, +/-15 kV, -40 to 85 degC, 16-Pin WQFN (RTZ), Green (RoHS & no Sb/Br); PartNumber: TUSB1106RTZRG4; Manufacturer: Texas Instruments; SubFamily: USB Transceiver; DatasheetVersion: SCAS818E; PackageVersion: revD, Apr-2011; PackageReference: RTZ16-1400X1400TP; PackageDescription: 16-Pin Plastic Quad Flatpack No-Lead, 3 x 3 mm Body, 0.5 mm Pitch; Mounting Technology: Surface Mount; Eco-Plan: Green (RoHS & no Sb/Br); ESD HBM(kV): +/-15; USB Speed: Full; ComponentLink1Description: Datasheet; ComponentLink1URL: http://www.ti.com/general/docs/lit/getliterature.tsp?genericPartNumber=TUSB1106&fileType=pdf; ComponentLink2Description: Package Specification; ComponentLink2URL: http://www.ti.com/lit/ml/mpqf177c/mpqf177c.pdf
footprint RTZ16-1400X1400TP (PQFN, 16-Leads, Body 3x3mm, Pitch 0.5mm, Thermal Pad 1.4x1.4mm, TI Recommended)
part A pins: 1 ~{OE} (in) "Output enable (CMOS level with respect to VCC(I/O), active LOW). Enables the transceiver to transmit data on the USB bus input pad. Push pull,CMOS.", 2 RCV (out) "Differential data receiver (CMOS level with respect to VCC(I/O)). Driven LOW when input SUSPND is HIGH. [see datasheet]", 3 VP (out) "Single-ended D+ receiver (CMOS level with respect to V). For external detection of single-ended zero (SE0), error conditions, speed of connected device. [see datasheet]", 4 VM (out) ""Single-ended D- receiver (CMOS level with respect to VCC(I/O)).For", 5 SUSPND (in) "Suspend (CMOS level with respect to VCC(I/O)). A HIGH level enables low-power state while the USB bus is inactive and drives output RCV to a LOW-level input pad. Push pull, CMOS.", 8 SPEED (in) "Speed selection (CMOS level with respect to VCC(I/O)). Adjusts the slew rate of differential data outputs D+ and D- according to the transmission speed. Input pad, push pull, CMOS. [see datasheet]", 9 D- (io) "Negative USB data bus connection (analog,differential).For low-speed mode, connect to pin Vpu(3.3) via a 1.5-k ohm resistor", 10 D+ (io) "Positive USB data bus connection (analog,differential). For full-speed mode, connect to pin Vpu(3.3) via a 1.5-k ohm resistor", 11 VPO (in) "Driver data (CMOS level with respect to VCC(I/O), Schmitt trigger). [see datasheet]", 12 VMO (in) "Driver data (CMOS level with respect to VCC(I/O), Schmitt trigger). [see datasheet]", 16 SOFTCON (in) "Software-controlled USB connection. A HIGH level applies 3.3 V to pin Vpu(3.3), which is connected to an external 1.5-k ohm pullup resistor. [see datasheet]"
part B pins: 6 GND (power) "Ground supply(2)", 7 VCC(I/O) (power) "Supply voltage for digital I/O pins (1.65 to 3.6 V). When VCC(I/O) is not connected, the D+ and D- pins are in 3-state. This supply pin is independent of VCC(5.0) and Vreg(3. [see datasheet]", 13 VREG_33 (power) "Internal regulator option. Supply-voltage input (4 V to 5.5 V). Can be connected directly to USB supply VBUS regulator bypass option. Connect to Vreg(3.3).", 14 VCC_5 (power) "Internal regulator option. Supply-voltage input (4 V to 5.5 V). Can be connected directly to USB supply VBUS regulator bypass option. Connect to Vreg(3.3).", 15 VPU_33 (power) "Pullup supply voltage (3.3 V +/- 10%). Connect an external 1.5-k ohm resistor on D+ (full speed) or D- (low speed). Pin function is controlled by input SOFTCON.SOFTCON = LOW – Vpu(3. [see datasheet]", 17 EP "Exposed Thermal Pad"

## TUSB1210BRHBR
designator U?
USB 2.0 ULPI Transceiver, High Speed, ULPI, +/-2V, -40 to 85 degC, 32-Pin QFN (RHB), Green (RoHS & no Sb/Br); PartNumber: TUSB1210BRHBR; Manufacturer: Texas Instruments; SubFamily: USB Transceiver; ESD HBM(kV): +/-2; DatasheetVersion: SLLSE09E; PackageVersion: revD, Jun-2011; PackageReference: RHB32-3450X3450TP; PackageDescription: 32-Pin Plastic Quad Flat No-Lead, 5 x 5 mm Body, 0.5 mm Pitch, 3.45 x 3.45 mm Exposed Pad; Mounting Technology: Surface Mount; Eco-Plan: Green (RoHS & no Sb/Br); USB Speed: High; Code_JEDEC: MO-220; ComponentLink1Description: Datasheet; ComponentLink1URL: http://www.ti.com/general/docs/lit/getliterature.tsp?genericPartNumber=TUSB1210&fileType=pdf; ComponentLink2Description: Package Specification; ComponentLink2URL: http://www.ti.com/litv/pdf/mpqf130c
footprint RHB32-3450X3450TP (QFN, 32-Leads, Body 5x5mm, Pitch 0.5mm, Thermal Pad 3.45x3.45mm, TI Recommended)
pins: 1 REFCLK (in) "VDD33 Reference clock input.Tie to GND when pin 26(CLOCK) is required to be Input mode. Connect to square-wave reference clock of amplitude in the range of 3 V to 3. [see datasheet]", 2 NXT (out) "ULPI NXT output signal", 3 DATA0 (io) "ULPI DATA input/output signal 0 synchronized to CLOCK", 4 DATA1 (io) "ULPI DATA input/output signal 1 synchronized to CLOCK", 5 DATA2 (io) "ULPI DATA input/output signal 2 synchronized to CLOCK", 6 DATA3 (io) "ULPI DATA input/output signal 3 synchronized to CLOCK", 7 DATA4 (io) "ULPI DATA input/output signal 4 synchronized to CLOCK", 8 NC "No connect", 9 DATA5 (io) "ULPI DATA input/output signal 6 synchronized to CLOCK", 10 DATA6 (io) "ULPI DATA input/output signal 6 synchronized to CLOCK", 11 CS (in) "Active-high chip select pin. When low the IC is in power down and ULPIbus is tri-stated. When high normal operation. Tie to VDDIO if unused.", 12 VDD15 (power) "1.5-V internal LDO output. Connect to external filtering capacitor.", 13 DATA7 (io) "ULPI DATA input/output signal 7 synchronized to CLOCK", 14 CFG (in) "REFCLK clock frequency configuration pin. Two frequencies are IO supported: 19.2 MHz when 0, or 26 MHz when 1", 15 NC "No connect", 16 NC "No connect", 17 CPEN (out) "CMOS active-high digital output control of external 5V VBUS supply", 18 DP (io) "DP pin of the USB connector", 19 DM (io) "DM pin of the USB connector", 20 VDD33 (power) "3.3-V internal LDO output. Connect to external filtering capacitor", 21 VBAT (power) "Input supply voltage or battery source", 22 VBUS (power) "VBUS pin of the USB connector", 23 ID (io) "Identification (ID) pin of the USB connector", 24 NC "No connect", 25 NC "No connect", 26 CLOCK (io) "ULPI 60 MHz clock on which ULPI data is synchronized.Two modes are possible:Input Mode: CLOCK defaults as an input. [see datasheet]", 27 RESETB (in) "When low, all digital logic including registers are reset to their default values, and ULPI bus is tri-stated. When high, normal USB operation.", 28 VDD18 (power) "External 1.8-V supply input. Connect to external filtering capacitor.", 29 STP (in) "ULPI STP input signal", 30 VDD18 (power) "External 1.8-V supply input. Connect to external filtering capacitor", 31 DIR (out) "ULPI DIR output signal", 32 VDDIO (power) "External 1.8V supply input for digital I/Os. Connect to external filtering capacitor", 33 EP (power) ""Exposed Thermal pad"

## TUSB1210BRHBT
designator U?
USB 2.0 ULPI Transceiver, High Speed, ULPI, +/-2V, -40 to 85 degC, 32-Pin QFN (RHB), Green (RoHS & no Sb/Br); PartNumber: TUSB1210BRHBT; Manufacturer: Texas Instruments; SubFamily: USB Transceiver; ESD HBM(kV): +/-2; DatasheetVersion: SLLSE09E; PackageVersion: revD, Jun-2011; PackageReference: RHB32-3450X3450TP; PackageDescription: 32-Pin Plastic Quad Flat No-Lead, 5 x 5 mm Body, 0.5 mm Pitch, 3.45 x 3.45 mm Exposed Pad; Mounting Technology: Surface Mount; Eco-Plan: Green (RoHS & no Sb/Br); USB Speed: High; Code_JEDEC: MO-220; ComponentLink1Description: Datasheet; ComponentLink1URL: http://www.ti.com/general/docs/lit/getliterature.tsp?genericPartNumber=TUSB1210&fileType=pdf; ComponentLink2Description: Package Specification; ComponentLink2URL: http://www.ti.com/litv/pdf/mpqf130c
footprint RHB32-3450X3450TP (QFN, 32-Leads, Body 5x5mm, Pitch 0.5mm, Thermal Pad 3.45x3.45mm, TI Recommended)
pins: 1 REFCLK (in) "VDD33 Reference clock input.Tie to GND when pin 26(CLOCK) is required to be Input mode. Connect to square-wave reference clock of amplitude in the range of 3 V to 3. [see datasheet]", 2 NXT (out) "ULPI NXT output signal", 3 DATA0 (io) "ULPI DATA input/output signal 0 synchronized to CLOCK", 4 DATA1 (io) "ULPI DATA input/output signal 1 synchronized to CLOCK", 5 DATA2 (io) "ULPI DATA input/output signal 2 synchronized to CLOCK", 6 DATA3 (io) "ULPI DATA input/output signal 3 synchronized to CLOCK", 7 DATA4 (io) "ULPI DATA input/output signal 4 synchronized to CLOCK", 8 NC "No connect", 9 DATA5 (io) "ULPI DATA input/output signal 6 synchronized to CLOCK", 10 DATA6 (io) "ULPI DATA input/output signal 6 synchronized to CLOCK", 11 CS (in) "Active-high chip select pin. When low the IC is in power down and ULPIbus is tri-stated. When high normal operation. Tie to VDDIO if unused.", 12 VDD15 (power) "1.5-V internal LDO output. Connect to external filtering capacitor.", 13 DATA7 (io) "ULPI DATA input/output signal 7 synchronized to CLOCK", 14 CFG (in) "REFCLK clock frequency configuration pin. Two frequencies are IO supported: 19.2 MHz when 0, or 26 MHz when 1", 15 NC "No connect", 16 NC "No connect", 17 CPEN (out) "CMOS active-high digital output control of external 5V VBUS supply", 18 DP (io) "DP pin of the USB connector", 19 DM (io) "DM pin of the USB connector", 20 VDD33 (power) "3.3-V internal LDO output. Connect to external filtering capacitor", 21 VBAT (power) "Input supply voltage or battery source", 22 VBUS (power) "VBUS pin of the USB connector", 23 ID (io) "Identification (ID) pin of the USB connector", 24 NC "No connect", 25 NC "No connect", 26 CLOCK (io) "ULPI 60 MHz clock on which ULPI data is synchronized.Two modes are possible:Input Mode: CLOCK defaults as an input. [see datasheet]", 27 RESETB (in) "When low, all digital logic including registers are reset to their default values, and ULPI bus is tri-stated. When high, normal USB operation.", 28 VDD18 (power) "External 1.8-V supply input. Connect to external filtering capacitor.", 29 STP (in) "ULPI STP input signal", 30 VDD18 (power) "External 1.8-V supply input. Connect to external filtering capacitor", 31 DIR (out) "ULPI DIR output signal", 32 VDDIO (power) "External 1.8V supply input for digital I/Os. Connect to external filtering capacitor", 33 EP (power) ""Exposed Thermal pad"

## TUSB1211A1ZRQ
designator U?
USB 2.0 ULPI Transceiver , High Speed, ULPI, + / -2 kV, -40 to 85 degC, 36-Pin BGAMICROSTAR JUNIOR (ZRQ), Green (RoHS & no Sb/Br); PartNumber: TUSB1211A1ZRQ; Manufacturer: Texas Instruments; SubFamily: USB Transceiver; ESD HBM(kV): +/-15; USB Speed: Full; DatasheetVersion: SLLSE80A; PackageVersion: revA, Jul-2009; PackageReference: ZRQ36; PackageDescription: 36-Ball Plastic Ball Grid Array, 3.5 x 3.5 mm Body, 0.5 mm Pitch, Pb-Free; Mounting Technology: Surface Mount; Eco-Plan: Green (RoHS & no Sb/Br); ComponentLink1Description: Datasheet; ComponentLink1URL: http://www.ti.com/general/docs/lit/getliterature.tsp?genericPartNumber=TUSB1211&fileType=pdf; ComponentLink2Description: Package Specification; ComponentLink2URL: http://www.ti.com/lit/ml/mpbg961/mpbg961.pdf
footprint ZRQ36 (BGA, 36-Leads, Body 3.5x3.5mm, Pitch 0.5mm)
pins: A1 DATA1 (io) "ULPI DATA input/output signal synchronized to CLOCK", A2 DATA2 (io) "ULPI DATA input/output signal synchronized to CLOCK", A3 DATA3 (io) "ULPI DATA input/output signal synchronized to CLOCK", A4 CLOCK (io) "ULPI 60MHz clock on which ULPI data is synchronized. [see datasheet]", A5 DATA4 (io) "ULPI DATA input/output signal synchronized to CLOCK", A6 DATA5 (io) "ULPI DATA input/output signal synchronized to CLOCK", B1 DATA0 (io) "ULPI DATA input/output signal synchronized to CLOCK", B2 VDDIO (power) "External 1.8V supply input for digital I/Os. Connect to external filtering capacitor.", B3 CS (in) "Active-high chip select pin. When low the IC is in power down and ULPI bus is tri-stated. When high (and CS_N pin iTie to VDDIO if unused.s low) normal operation.", B4 CFG (in) "REFCLK clock frequency configuration pin. Two frequencies are supported: 19.2MHz when 0, or 26MHz when 1.", B5 VDDIO (power) "External 1.8V supply input for digital I/Os. Connect to external filtering capacitor", B6 DATA6 (io) "ULPI DATA input/output signal synchronized to CLOCK", C1 DM (io) "DM pin of the USB connector", C2 NC, C3 CS_N (in) "Active-low chip select pin. When high the IC is in power down and ULPI bus is tri-stated. When low (and CS pin is high) normal operation. Tie to GND if unused.", C4 RESET_N (in) "Active low chip reset pin. Minimum pulse width 100 us. [see datasheet]", C5 GND (power) "Ground", C6 DATA7 (io) "ULPI DATA input/output signal synchronized to CLOCK", D1 DP (io) "DP pin of the USB connector", D2 GND (power) "Ground", D3 ID (io) "Identification (ID) pin of the USB connector", D4 PSW (oc) "Controls an external, active high, VBUS power switch or charge pump. [see datasheet]", D5 NXT (out) "ULPI NXT output signal", D6 STP (in) "ULPI STP input signal", E1 CHRG_EN_N (in) "Active low input pin used to enable Battery Charging Detection in Dead Battery Charger Detection mode. This pin is ignored in ACTIVE mode. Connect to GND to activate. [see datasheet]", E2 FAULT (in) "VBUS fault detector input used as EXTERNALVBUSINDICATOR in TUSB1211. [see datasheet]", E3 REG3V3 (out) "3.3 V internal LDO output. Connect to external filtering capacitor.", E4 GND (power) "Ground", E5 DIR (out) "ULPI DIR output signal", E6 REG1V5 (out) "1.5 V internal LDO output. Connect to external filtering capacitor.", F1 CHRG_POL (in) "When connected to GND then CHRG_DET output pin is active low. When connected to VBAT then CHRG_DET output pin is active high.", F2 CHRG_DET (oc) "When CHRG_POL pin is at GND then CHRG_DET is in active low open-drain mode with external RCHRGDET (100K) connected to VBAT. [see datasheet]", F3 VBAT (power) "Input supply voltage or battery source. Nominally 3.3 V to 4.5 V", F4 VBUS (io) "VBUS pin of the USB connector", F5 REFCLK (in) "Reference clock input. Input reference clock frequency must be indicated by CFG pin. Two frequencies are supported: 19.2MHz (when CFG = 0), and 26MHz (when CFG = 1).", F6 SOF (out) "HS USB SOF (Start-Of-Frame) output clock. (feature controlled by SOF_EN bit, disabled and output logic low by default.). HS USB SOF packet rate is 8 kHz"

## TUSB1211A1ZRQR
designator U?
USB 2.0 ULPI Transceiver, High Speed, ULPI, +/-2 kV, -40 to 85 degC, 36-Pin BGAMICROSTAR JUNIOR (ZRQ), Green (RoHS & no Sb/Br); PartNumber: TUSB1211A1ZRQR; Manufacturer: Texas Instruments; SubFamily: USB Transceiver; ESD HBM(kV): +/-15; USB Speed: Full; DatasheetVersion: SLLSE80A; PackageVersion: revA, Jul-2009; PackageReference: ZRQ36; PackageDescription: 36-Ball Plastic Ball Grid Array, 3.5 x 3.5 mm Body, 0.5 mm Pitch, Pb-Free; Mounting Technology: Surface Mount; Eco-Plan: Green (RoHS & no Sb/Br); ComponentLink1Description: Datasheet; ComponentLink1URL: http://www.ti.com/general/docs/lit/getliterature.tsp?genericPartNumber=TUSB1211&fileType=pdf; ComponentLink2Description: Package Specification; ComponentLink2URL: http://www.ti.com/lit/ml/mpbg961/mpbg961.pdf
footprint ZRQ36 (BGA, 36-Leads, Body 3.5x3.5mm, Pitch 0.5mm)
pins: A1 DATA1 (io) "ULPI DATA input/output signal synchronized to CLOCK", A2 DATA2 (io) "ULPI DATA input/output signal synchronized to CLOCK", A3 DATA3 (io) "ULPI DATA input/output signal synchronized to CLOCK", A4 CLOCK (io) "ULPI 60MHz clock on which ULPI data is synchronized. [see datasheet]", A5 DATA4 (io) "ULPI DATA input/output signal synchronized to CLOCK", A6 DATA5 (io) "ULPI DATA input/output signal synchronized to CLOCK", B1 DATA0 (io) "ULPI DATA input/output signal synchronized to CLOCK", B2 VDDIO (power) "External 1.8V supply input for digital I/Os. Connect to external filtering capacitor", B3 CS (in) "Active-high chip select pin. When low the IC is in power down and ULPI bus is tri-stated. When high (and CS_N pin iTie to VDDIO if unused.s low) normal operation.", B4 CFG (in) "REFCLK clock frequency configuration pin. Two frequencies are supported: 19.2MHz when 0, or 26MHz when1.", B5 VDDIO (power) "External 1.8V supply input for digital I/Os. Connect to external filtering capacitor", B6 DATA6 (io) "ULPI DATA input/output signal synchronized to CLOCK", C1 DM (io) "DM pin of the USB connector", C2 NC "Not connected", C3 CS_N (in) "Active-low chip select pin. When high the IC is in power down and ULPI bus is tri-stated. When low (and CS pin is high) normal operation. Tie to GND if unused.", C4 RESET_N (in) "Active low chip reset pin.Minimum pulse width 100 µs. [see datasheet]", C5 GND (power) "Ground", C6 DATA7 (io) "ULPI DATA input/output signal synchronized to CLOCK", D1 DP (io) "DP pin of the USB connector", D2 GND (power) "Ground", D3 ID (io) "Identification (ID) pin of the USB connector", D4 PSW (oc) "Controls an external, active high, VBUS power switch or charge pump. [see datasheet]", D5 NXT (out) "ULPI NXT output signal", D6 STP (in) "ULPI STP input signal", E1 CHRG_EN_N (in) "Active low input pin used to enable Battery Charging Detection in Dead Battery Charger Detection mode. This pin is ignored in ACTIVE mode. Connect to GND to activate. [see datasheet]", E2 FAULT (in) "VBUS fault detector input used as EXTERNALVBUSINDICATOR in TUSB1211 . [see datasheet]", E3 REG3V3 (power) "3.3 V internal LDO output. Connect to external filtering capacitor", E4 GND (power) "Ground", E5 DIR (out) "ULPI DIR output signal", E6 REG1V5 (power) "1.5 V internal LDO output. Connect to external filtering capacitor.", F1 CHRG_POL (in) "When connected to GND then CHRG_DET output pin is active low. When connected to VBAT then CHRG_DET output pin is active high", F2 CHRG_DET (oc) "When CHRG_POL pin is at GND then CHRG_DET is in active low open-drain mode with external RCHRGDET (100K) connected to VBAT. [see datasheet]", F3 VBAT (power) "Input supply voltage or battery source. Nominally 3.3 V to 4.5 V", F4 VBUS (power) "VBUS pin of the USB connector", F5 REFCLK (in) "Reference clock input.Input reference clock frequency must be indicated by CFG pin.Two frequencies are supported: 19.2MHz (when CFG = 0), and 26MHz (when CFG = 1)", F6 SOF (out) "HS USB SOF (Start-Of-Frame) output clock. (feature controlled by SOF_EN bit, disabled and output logic low by default.). HS USB SOF packet rate is 8 kHz"